# Altium footprint library NFM31HK153R1H3L.PcbLib: 1 footprints
Each footprint in its own frame and in the unit in brackets; x right, y up, seen from the top. Pads: shape width x height; smd on the part's side, far side on the other; paste and mask are expansions set on the pad; w line width, h text height; cw(c..) or ccw(c..) is an arc to the next point about the centre after c.
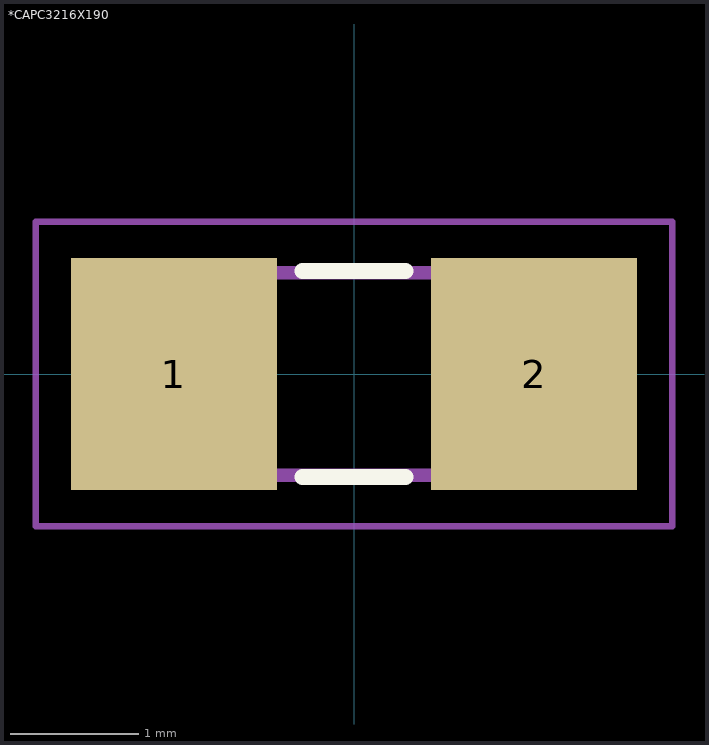
[diagram p0: the footprint, top view; thin cyan lines are the x and y axes]

## *CAPC3216X190 [mm]
pads (2):
  rect 1.6x1.8 smd: 1(-1.4,0) 2(1.4,0)
Top Overlay:
  lines w0.127: -0.4,-0.8 0.4,-0.8 ; -0.4,0.8 0.4,0.8
Mechanical 13:
  region: 0.952,0.851 1.702,0.851 1.702,-0.849 0.952,-0.849
  region: -1.702,0.849 -0.952,0.849 -0.952,-0.851 -1.702,-0.851
  region: 0.952,0.851 1.702,0.851 1.702,-0.849 0.952,-0.849
  region: -1.702,0.849 -0.952,0.849 -0.952,-0.851 -1.702,-0.851
  lines w0.102: -0.965,-0.787 0.965,-0.787 -0.965,-0.787 ; -0.965,0.787 0.965,0.787 -0.965,0.787
Mechanical 16:
  lines w0.051: -2.473,-1.183 -2.473,1.183 2.473,1.183 2.473,-1.183 -2.473,-1.183